# Altium footprint library SOP25P80_1030X1030X245L70X42T680X440N.PcbLib: 1 footprints
Each footprint in its own frame and in the unit in brackets; x right, y up, seen from the top. Pads: shape width x height; smd on the part's side, far side on the other; paste and mask are expansions set on the pad; w line width, h text height; cw(c..) or ccw(c..) is an arc to the next point about the centre after c.
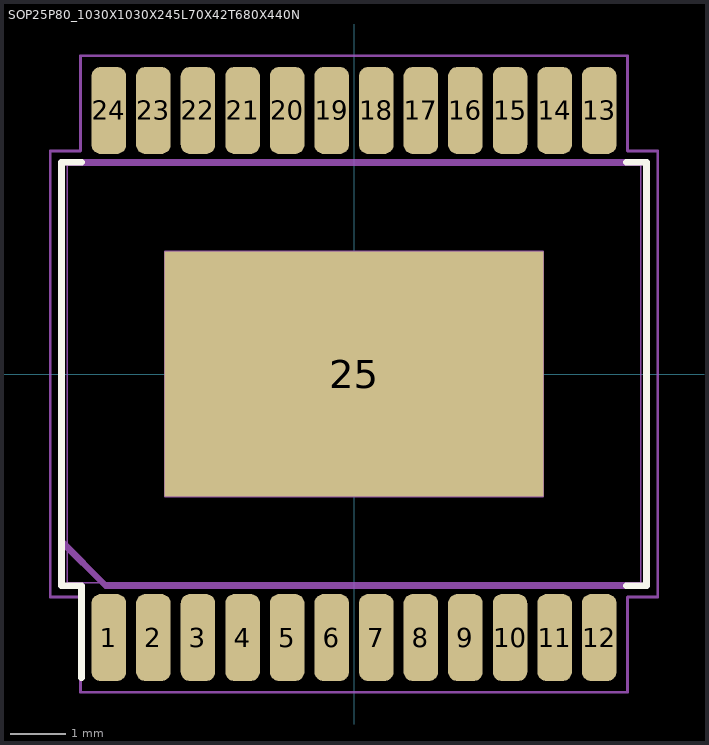
[diagram p0: the footprint, top view; thin cyan lines are the x and y axes]

## SOP25P80_1030X1030X245L70X42T680X440N [mm] "Small Outline Pkg (SOP with Tab), 0.80 mm pitch; 24 pin, 10.30 mm L X 7.50 mm W X 2.45 mm H body"
height 2.45
pads (25):
  rrect52% 0.62x1.56 smd: 1(-4.4,-4.73) 2(-3.6,-4.73) 3(-2.8,-4.73) 4(-2,-4.73) 5(-1.2,-4.73) 6(-0.4,-4.73) 7(0.4,-4.73) 8(1.2,-4.73) 9(2,-4.73) 10(2.8,-4.73) 11(3.6,-4.73) 12(4.4,-4.73) 13(4.4,4.73) 14(3.6,4.73) 15(2.8,4.73) 16(2,4.73) 17(1.2,4.73) 18(0.4,4.73) 19(-0.4,4.73) 20(-1.2,4.73) 21(-2,4.73) 22(-2.8,4.73) 23(-3.6,4.73) 24(-4.4,4.73)
  rect 6.8x4.4 smd paste-6.8: 25(0,0)
Top Overlay:
  lines w0.12: -4.89,-5.45 -4.89,-3.8 -5.25,-3.8 -5.25,3.8 -4.89,3.8 ; 4.89,-3.8 5.25,-3.8 5.25,3.8 4.89,3.8
Top Paste:
  region: 3.205,-1.82 1.895,-1.82 1.895,-0.39 3.205,-0.39
  region: 3.205,0.39 1.895,0.39 1.895,1.82 3.205,1.82
  region: 1.505,-1.82 0.195,-1.82 0.195,-0.39 1.505,-0.39
  region: 1.505,0.39 0.195,0.39 0.195,1.82 1.505,1.82
  region: -0.195,-1.82 -1.505,-1.82 -1.505,-0.39 -0.195,-0.39
  region: -0.195,0.39 -1.505,0.39 -1.505,1.82 -0.195,1.82
  region: -1.895,-1.82 -3.205,-1.82 -3.205,-0.39 -1.895,-0.39
  region: -1.895,0.39 -3.205,0.39 -3.205,1.82 -1.895,1.82
Mechanical 3:
  lines w0.12: -5.25,-3.005 -4.455,-3.8 5.25,-3.8 5.25,3.8 -5.25,3.8 -5.25,-3.005
Mechanical 5:
  lines w0.025: -5.15,-3.75 -5.15,3.75 5.15,3.75 5.15,-3.75 -5.15,-3.75 ; -4.61,-5.15 -4.19,-5.15 -4.19,-4.45 -4.61,-4.45 -4.61,-5.15 ; -4.61,4.45 -4.19,4.45 -4.19,5.15 -4.61,5.15 -4.61,4.45 ; -3.81,-5.15 -3.39,-5.15 -3.39,-4.45 -3.81,-4.45 -3.81,-5.15 ; -3.81,4.45 -3.39,4.45 -3.39,5.15 -3.81,5.15 -3.81,4.45 ; -3.4,-2.2 3.4,-2.2 3.4,2.2 -3.4,2.2 -3.4,-2.2 ; -3.01,-5.15 -2.59,-5.15 -2.59,-4.45 -3.01,-4.45 -3.01,-5.15 ; -3.01,4.45 -2.59,4.45 -2.59,5.15 -3.01,5.15 -3.01,4.45 ; -2.21,-5.15 -1.79,-5.15 -1.79,-4.45 -2.21,-4.45 -2.21,-5.15 ; -2.21,4.45 -1.79,4.45 -1.79,5.15 -2.21,5.15 -2.21,4.45 ; -1.41,-5.15 -0.99,-5.15 -0.99,-4.45 -1.41,-4.45 -1.41,-5.15 ; -1.41,4.45 -0.99,4.45 -0.99,5.15 -1.41,5.15 -1.41,4.45 ; -0.61,-5.15 -0.19,-5.15 -0.19,-4.45 -0.61,-4.45 -0.61,-5.15 ; -0.61,4.45 -0.19,4.45 -0.19,5.15 -0.61,5.15 -0.61,4.45 ; 0.19,-5.15 0.61,-5.15 0.61,-4.45 0.19,-4.45 0.19,-5.15 ; 0.19,4.45 0.61,4.45 0.61,5.15 0.19,5.15 0.19,4.45 ; 0.99,-5.15 1.41,-5.15 1.41,-4.45 0.99,-4.45 0.99,-5.15 ; 0.99,4.45 1.41,4.45 1.41,5.15 0.99,5.15 0.99,4.45 ; 1.79,-5.15 2.21,-5.15 2.21,-4.45 1.79,-4.45 1.79,-5.15 ; 1.79,4.45 2.21,4.45 2.21,5.15 1.79,5.15 1.79,4.45 ; 2.59,-5.15 3.01,-5.15 3.01,-4.45 2.59,-4.45 2.59,-5.15 ; 2.59,4.45 3.01,4.45 3.01,5.15 2.59,5.15 2.59,4.45 ; 3.39,-5.15 3.81,-5.15 3.81,-4.45 3.39,-4.45 3.39,-5.15 ; 3.39,4.45 3.81,4.45 3.81,5.15 3.39,5.15 3.39,4.45 ; 4.19,-5.15 4.61,-5.15 4.61,-4.45 4.19,-4.45 4.19,-5.15 ; 4.19,4.45 4.61,4.45 4.61,5.15 4.19,5.15 4.19,4.45
Mechanical 7:
  circle w0.05: c0,0 r0.25
  lines w0.05: -0.35,0 0.35,0 ; 0,-0.35 0,0.35 ; -5.45,-4 -5.45,4 -4.91,4 -4.91,5.71 4.91,5.71 4.91,4 5.45,4 5.45,-4 4.91,-4 4.91,-5.71 -4.91,-5.71 -4.91,-4 -5.45,-4
Mechanical 9:
  text "'.Designator'" at -5.08,-0.254 h1
3D body "SOP25P80_1030X1030X245L70X42T680X440.STEP": height 2.45, standoff 0, extent -5.15,-5.15 5.15,5.15
3D body: height 1.04, standoff 0, extent -5.45,-5.71 5.45,5.71